# Altium schematic symbol library Schematic_Modules_NES.SchLib: 5 symbols
Pins are listed as number, name and electrical type; pins without a type are passive.

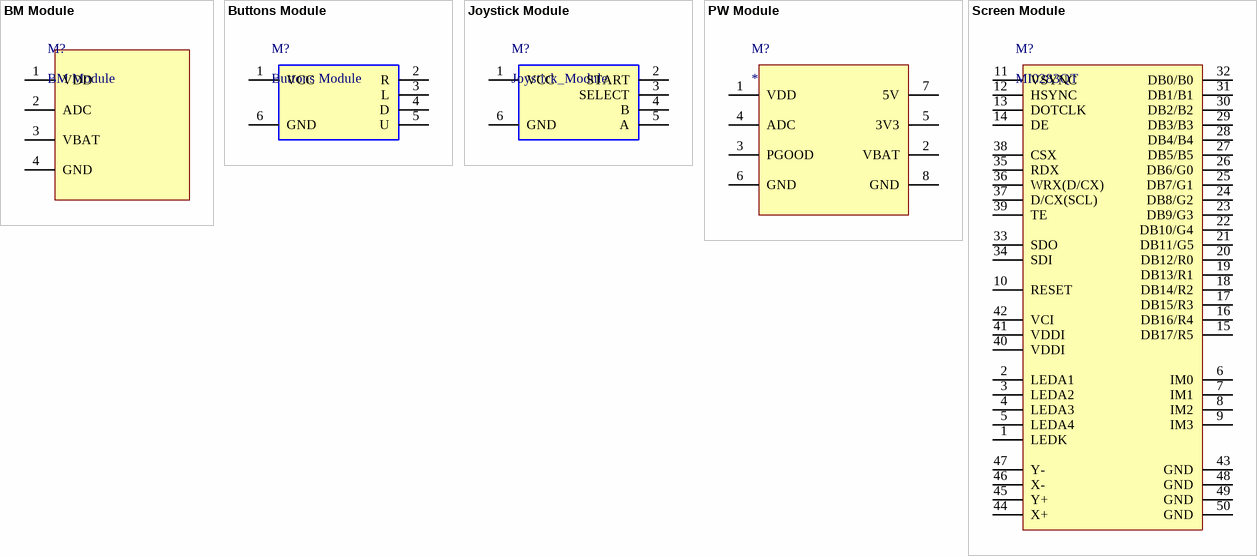
[diagram p0: symbols BM Module to Screen Module]

## BM Module
designator M?
Battery Management Module.
pins: 1 VDD, 2 ADC, 3 VBAT, 4 GND

## Buttons Module
designator M?
Controller Buttons Module
footprint BUTTON_MODULE (Footprint for Buttons Module)
pins: 1 VCC, 2 R, 3 L, 4 D, 5 U, 6 GND

## Joystick Module
designator M?, comment Joystick_Module
Controller Joystick module
footprint Joystick_Module (Footprint for Joystick Module)
pins: 1 VCC, 2 START, 3 SELECT, 4 B, 5 A, 6 GND

## PW Module
designator M?
Power Supply Module
footprint Power Module
pins: 1 VDD, 2 VBAT, 3 PGOOD, 4 ADC, 5 3V3, 6 GND, 7 5V, 8 GND

## Screen Module
designator M?, comment MI0283QT
footprint 2.8_SCREEN_MODULE (2.8" Screen Module)
pins: 1 LEDK, 2 LEDA1, 3 LEDA2, 4 LEDA3, 5 LEDA4, 6 IM0, 7 IM1, 8 IM2, 9 IM3, 10 RESET, 11 VSYNC, 12 HSYNC, 13 DOTCLK, 14 DE, 15 DB17/R5, 16 DB16/R4, 17 DB15/R3, 18 DB14/R2, 19 DB13/R1, 20 DB12/R0, 21 DB11/G5, 22 DB10/G4, 23 DB9/G3, 24 DB8/G2, 25 DB7/G1, 26 DB6/G0, 27 DB5/B5, 28 DB4/B4, 29 DB3/B3, 30 DB2/B2, 31 DB1/B1, 32 DB0/B0, 33 SDO, 34 SDI, 35 RDX, 36 WRX(D/CX), 37 D/CX(SCL), 38 CSX, 39 TE, 40 VDDI, 41 VDDI, 42 VCI, 43 GND, 44 X+, 45 Y+, 46 X-, 47 Y-, 48 GND, 49 GND, 50 GND